# Altium schematic symbol library DRV8323RSRGZT.SchLib: 1 symbol
Pins are listed as number, name and electrical type; pins without a type are passive.

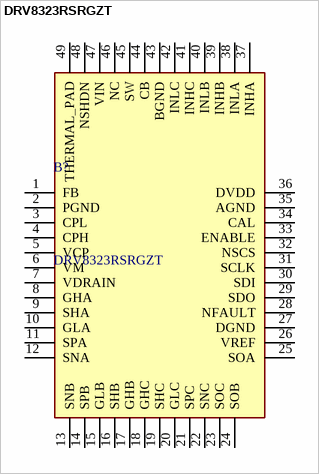
[diagram p0: symbol DRV8323RSRGZT]

## DRV8323RSRGZT
designator B?
60V Three-Phase Smart Gate Driver With Buck Regulator and Three Current Shunt Amplifiers; Manufacturer_Name: Texas Instruments; Geometry.Height: 1mm; Manufacturer_Part_Number: DRV8323RSRGZT; Mouser Part Number: 595-DRV8323RSRGZT; Mouser Price/Stock: https://www.mouser.co.uk/ProductDetail/Texas-Instruments/DRV8323RSRGZT?qs=Mv7BduZupUh8uglXmMY%2FjA%3D%3D; Arrow Part Number: DRV8323RSRGZT; Arrow Price/Stock: https://www.arrow.com/en/products/drv8323rsrgzt/texas-instruments?region=nac; Mouser Testing Part Number: *; Mouser Testing Price/Stock: *; Datasheet Link: http://www.ti.com/lit/ds/symlink/drv8323.pdf
footprint QFN50P700X700X100-49N-D
pins: 1 FB, 2 PGND, 3 CPL, 4 CPH, 5 VCP, 6 VM, 7 VDRAIN, 8 GHA, 9 SHA, 10 GLA, 11 SPA, 12 SNA, 13 SNB, 14 SPB, 15 GLB, 16 SHB, 17 GHB, 18 GHC, 19 SHC, 20 GLC, 21 SPC, 22 SNC, 23 SOC, 24 SOB, 25 SOA, 26 VREF, 27 DGND, 28 NFAULT, 29 SDO, 30 SDI, 31 SCLK, 32 NSCS, 33 ENABLE, 34 CAL, 35 AGND, 36 DVDD, 37 INHA, 38 INLA, 39 INHB, 40 INLB, 41 INHC, 42 INLC, 43 BGND, 44 CB, 45 SW, 46 NC, 47 VIN, 48 NSHDN, 49 THERMAL_PAD